# EAGLE library part DS1321 (library ds1321)
DS1321 Battery Monitor
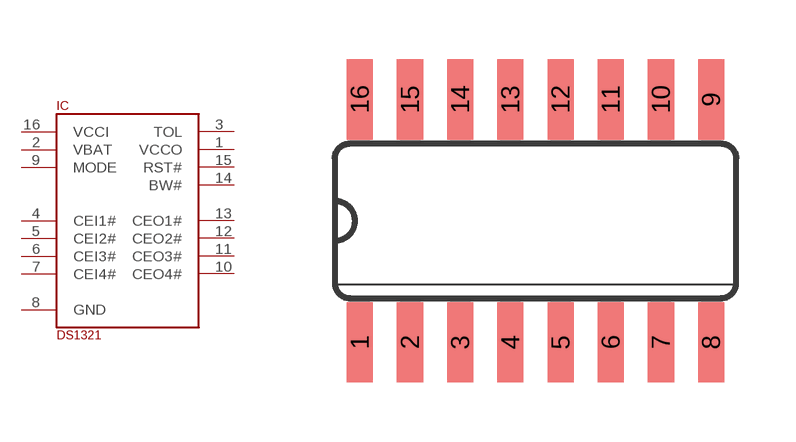
[diagram p0: symbol with the pads of SO16; footprint SO16]

Designator prefix IC

## DS1321D  [SO16]
1  VCCO  out
2  VBAT  in
3  TOL  in
4  CEI1#  in
5  CEI2#  in
6  CEI3#  in
7  CEI4#  in
8  GND  pwr
9  MODE  pas
10  CEO4#  out
11  CEO3#  out
12  CEO2#  out
13  CEO1#  out
14  BW#  out
15  RST#  out
16  VCCI  in

## Footprint SO16 (pad centres in mm)
SOIC 16 3.9mm
smd 0.66 x 2.032: 1 -4.445,-3.073; 2 -3.175,-3.073; 3 -1.905,-3.073; 4 -0.635,-3.073; 5 0.635,-3.073; 6 1.905,-3.073; 7 3.175,-3.073; 8 4.445,-3.073; 9 4.445,3.073; 10 3.175,3.073; 11 1.905,3.073; 12 0.635,3.073; 13 -0.635,3.073; 14 -1.905,3.073; 15 -3.175,3.073; 16 -4.445,3.073